# Altium integrated library IC_Diodes_AP3418KTR-G1.IntLib: 1 symbol
Pins are listed as number, name and electrical type; pins without a type are passive.

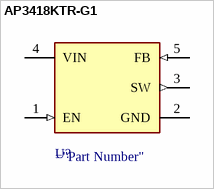
[diagram p0: symbol AP3418KTR-G1]

## AP3418KTR-G1
designator U?  (value not drawn)
pins: 1 EN (in), 2 GND (power), 3 SW (out), 4 VIN (power), 5 FB (in)